# Altium footprint library 3-JST-Connector.PcbLib: 21 footprints (part 2 of 2)
Each footprint in its own frame and in the unit in brackets; x right, y up, seen from the top. Pads: shape width x height; smd on the part's side, far side on the other; paste and mask are expansions set on the pad; w line width, h text height; cw(c..) or ccw(c..) is an arc to the next point about the centre after c.
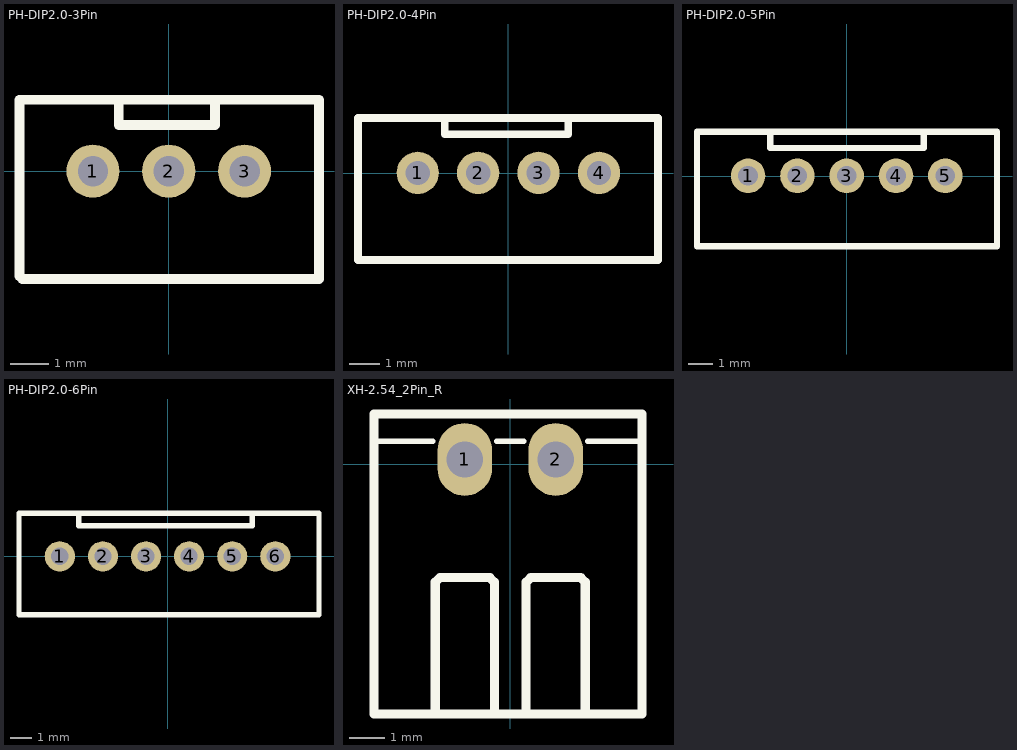
[diagram p1: the footprints below, top view; thin cyan lines are the x and y axes]

## PH-DIP2.0-3Pin [mm]
pads (3):
  round 1.4 hole 0.8: 1(-2,0) 2(0,0) 3(2,0)
Top Overlay:
  lines w0.254: -1.321,1.829 -1.321,1.219 1.219,1.219 1.219,1.803 ; -3.937,-2.769 -3.937,1.88 3.962,1.88 3.962,-2.845 -3.861,-2.845 -3.937,-2.769
Assembly Notes:
  lines w0.152: -1.321,1.905 -1.321,1.194 1.219,1.194 1.219,1.88 ; -3.95,-2.8 -3.95,1.9 3.95,1.9 3.95,-2.8 -3.95,-2.8
  text ".Designator" at -3.2,-2.057 h1.52
3D body "Conn_PH-2.0_3P_TOP.stp": height 6, standoff -3.4, extent -3.95,-2.8 3.95,1.9

## PH-DIP2.0-4Pin [mm]
pads (4):
  round 1.4 hole 0.8: 1(-3,0.013) 2(-1,0.013) 3(1,0.013) 4(3,0.013)
Top Overlay:
  lines w0.254: -2.108,1.829 -2.108,1.295 1.981,1.295 1.981,1.778 ; -4.978,-2.87 -4.978,1.829 4.953,1.829 4.953,-2.87 -4.978,-2.87
Assembly Notes:
  text ".Designator" at -3.048,-2.286 h1.52
3D body "Conn_PH-2.0_4P_TOP.stp": height 6, standoff -3.4, extent -4.953,-2.889 4.947,1.811

## PH-DIP2.0-5Pin [mm]
pads (5):
  round 1.4 hole 0.8: 1(-4,0.013) 2(-2,0.013) 3(0,0.013) 4(2,0.013) 5(4,0.013)
Top Overlay:
  lines w0.254: -3.099,1.803 -3.099,1.143 3.124,1.143 3.124,1.753 ; -6.071,-2.845 6.096,-2.845 6.096,1.803 -6.071,1.803 -6.071,-2.845
Assembly Notes:
  text ".Designator" at -3.048,-2.54 h1.52
3D body "Conn_PH-2.0_5P_TOP.stp": height 6, standoff -3.4, extent -5.95,-2.787 5.95,1.913

## PH-DIP2.0-6Pin [mm]
pads (6):
  round 1.4 hole 0.8: 1(-5,0) 2(-3,0) 3(-1,0) 4(1,0) 5(3,0) 6(5,0)
Top Overlay:
  lines w0.254: -4.124,1.968 -4.124,1.41 3.928,1.41 3.928,1.994 ; -6.893,-2.705 7.027,-2.705 7.027,1.994 -6.893,1.994 -6.893,-2.705
Assembly Notes:
  text ".Designator" at -3.302,-2.286 h1.52
3D body "Conn_PH-2.0_6P_TOP.stp": height 6, standoff -3.4, extent -6.883,-2.705 7.017,1.995

## XH-2.54_2Pin_R [mil] "2.54mm,2Pin,卧式"
pads (2):
  oval 60x80 hole 40: 1(-50,5) 2(50,5)
Top Overlay:
  lines w6: -150,25 -85,25 ; -15,25 15,25 ; 85,25 145,25
  lines w10: -82.5,-275 -82.5,-130 -77.5,-125 -22.5,-125 -17.5,-130 -17.5,-275 ; 17.5,-275 17.5,-130 22.5,-125 77.5,-125 82.5,-130 82.5,-275 ; -150,-275 -150,55 145,55 145,-275 -150,-275
Assembly Notes:
  text ".Designator" at -135,-90 h60
3D body "JST-XH-2.5mm-2.STEP": height 236.14, standoff -130, extent -147.63,-275.58 147.64,25.2